# EAGLE library part AT42QT1070 (library pimoroni-ics)
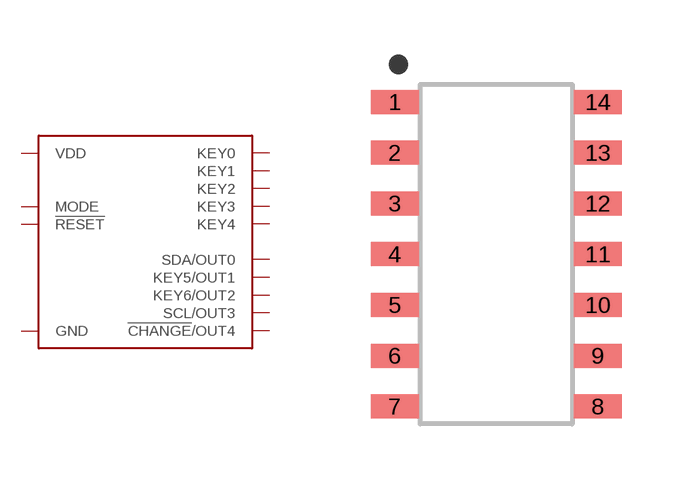
[diagram p40: symbol with the pads of SOP14-150MIL; footprint SOP14-150MIL]

Designator prefix -

## AT42QT1070  [SOP14-150MIL]
1  VDD
2  MODE
3  SDA/OUT0
4  !RESET
5  !CHANGE!/OUT4
6  SCL/OUT3
7  KEY6/OUT2
8  KEY5/OUT1
9  KEY4
10  KEY3
11  KEY2
12  KEY1
13  KEY0
14  GND

## Footprint SOP14-150MIL (pad centres in mm)
smd 1.2 x 0.6: 1 -2.54,3.81; 2 -2.54,2.54; 3 -2.54,1.27; 4 -2.54,0; 5 -2.54,-1.27; 6 -2.54,-2.54; 7 -2.54,-3.81; 8 2.54,-3.81; 9 2.54,-2.54; 10 2.54,-1.27; 11 2.54,0; 12 2.54,1.27; 13 2.54,2.54; 14 2.54,3.81